# EAGLE library part 428527420917 (library Switches_rev16a)
WS-RST-10x10 mm washable THT Rotary Switch,6 pins,16 position
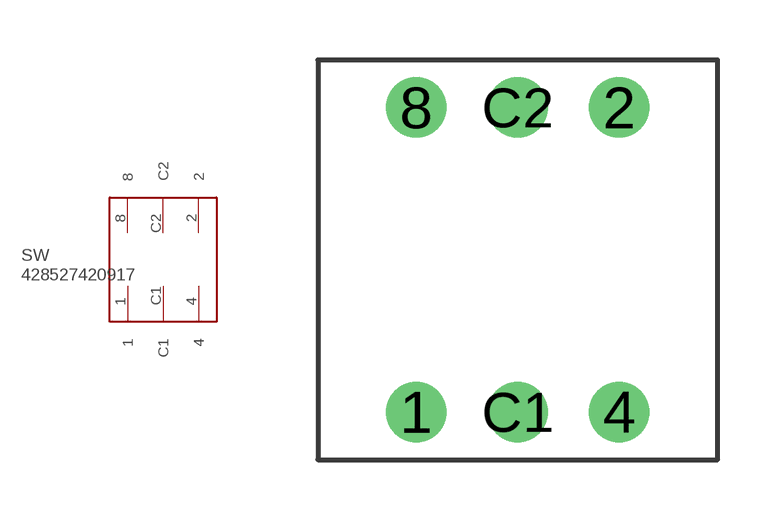
[diagram p3: symbol with the pads of 428527420917; footprint 428527420917]

Designator prefix SW

## 428527420917  [428527420917]
1  1
2  2
4  4
8  8
C1  C1
C2  C2

## Footprint 428527420917 (pad centres in mm)
WS-RST-10x10 mm washable THT Rotary Switch,6 pins,16 positions
drill 1: 1 -2.54,-3.81; 2 2.54,3.81; 4 2.54,-3.81; 8 -2.54,3.81; C1 0,-3.81; C2 0,3.81